# Altium footprint library USB_Wireless_2.4G.PcbLib: 6 footprints
Each footprint in its own frame and in the unit in brackets; x right, y up, seen from the top. Pads: shape width x height; smd on the part's side, far side on the other; paste and mask are expansions set on the pad; w line width, h text height; cw(c..) or ccw(c..) is an arc to the next point about the centre after c.
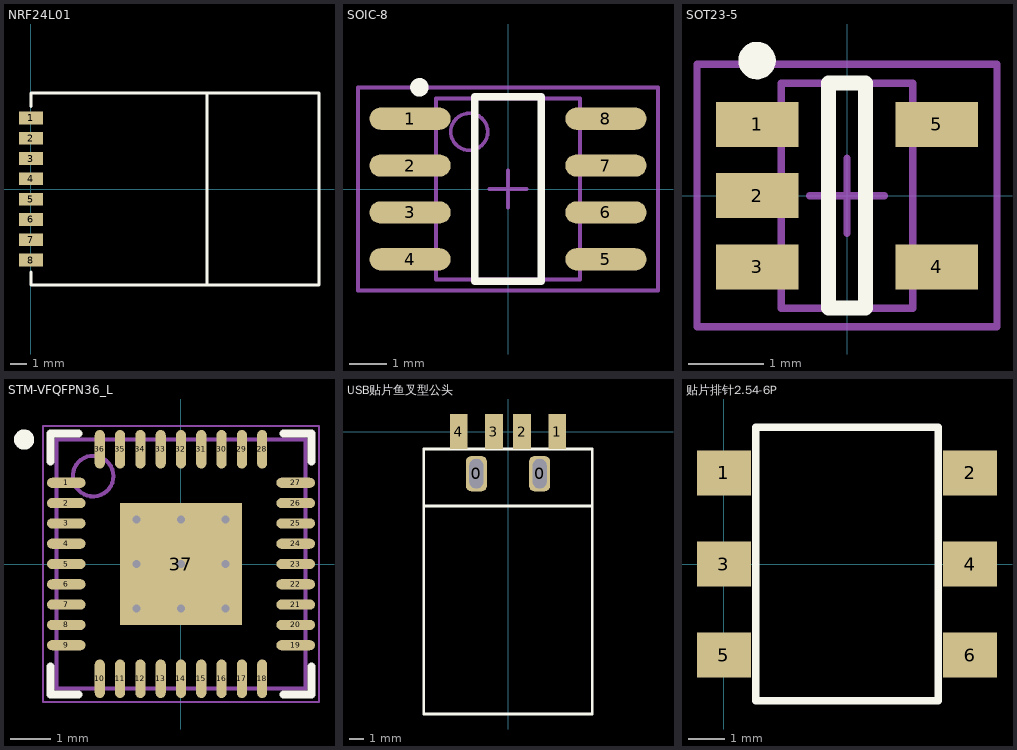
[diagram p0: the footprints below, top view; thin cyan lines are the x and y axes]

## NRF24L01 [mm]
pads (8):
  rect 1.5x0.8 smd: 1(0,4.445) 2(0,3.175) 3(0,1.905) 4(0,0.635) 5(0,-0.635) 6(0,-1.905) 7(0,-3.175) 8(0,-4.445)
Top Overlay:
  lines w0.2: 0,-5.2 0,-6 18,-6 18,6 0,6 ; 0,5.176 0,5.976 ; 11,-6 11,6
3D body: height 0.8, standoff 0, extent 0,-6 18.034,6

## SOIC-8 [mm]
height 1.75
pads (8):
  oval 2.2x0.6 smd: 1(-2.654,1.905) 2(-2.654,0.635) 3(-2.654,-0.635) 4(-2.654,-1.905) 5(2.654,-1.905) 6(2.654,-0.635) 7(2.654,0.635) 8(2.654,1.905)
Top Overlay:
  circle w0.25: c-2.4,2.755 r0.125
  lines w0.2: -0.9,-2.5 0.9,-2.5 0.9,2.5 -0.9,2.5 -0.9,-2.5
Mechanical 13:
  circle w0.1: c-1.05,1.55 r0.5
  lines w0.1: -1.95,-2.45 1.95,-2.45 1.95,2.45 -1.95,2.45 -1.95,-2.45
Mechanical 15:
  lines w0.1: -0.5,0 0.5,0 ; 0,-0.5 0,0.5 ; -4.064,-2.75 4.064,-2.75 4.064,2.75 -4.064,2.75 -4.064,-2.75
3D body "SO-8.STEP": height 1.7, standoff 0, extent -3,-2.45 3,2.45

## SOT23-5 [mm]
pads (5):
  rect 1.1x0.6 smd: 1(-1.2,0.95) 2(-1.2,0) 3(-1.2,-0.95) 4(1.2,-0.95) 5(1.2,0.95)
Top Overlay:
  circle w0.25: c-1.2,1.8 r0.125
  lines w0.2: -0.25,-1.5 -0.25,1.5 0.25,1.5 0.25,-1.5 -0.25,-1.5
Mechanical 13:
  lines w0.1: -0.875,-1.5 0.875,-1.5 0.875,1.5 -0.875,1.5 -0.875,-1.5
Mechanical 15:
  lines w0.1: -0.5,0 0.5,0 ; 0,-0.5 0,0.5 ; -2,-1.75 2,-1.75 2,1.75 -2,1.75 -2,-1.75
3D body "SOT23-5.STEP": height 1.2, standoff 0, extent -1.4,-1.45 1.4,1.45

## STM-VFQFPN36_L [mm] "QFN, 36-Leads, Body 6.13x6.13mm, Pitch 0.5mm, Thermal Pad 3x3mm, IPC High Density"
height 1
pads (37):
  oval 0.95x0.25 smd: 1(-2.825,2) 2(-2.825,1.5) 3(-2.825,1) 4(-2.825,0.5) 5(-2.825,0) 6(-2.825,-0.5) 7(-2.825,-1) 8(-2.825,-1.5) 9(-2.825,-2) 19(2.825,-2) 20(2.825,-1.5) 21(2.825,-1) 22(2.825,-0.5) 23(2.825,0) 24(2.825,0.5) 25(2.825,1) 26(2.825,1.5) 27(2.825,2)
  oval 0.25x0.95 smd: 10(-2,-2.825) 11(-1.5,-2.825) 12(-1,-2.825) 13(-0.5,-2.825) 14(0,-2.825) 15(0.5,-2.825) 16(1,-2.825) 17(1.5,-2.825) 18(2,-2.825) 28(2,2.825) 29(1.5,2.825) 30(1,2.825) 31(0.5,2.825) 32(0,2.825) 33(-0.5,2.825) 34(-1,2.825) 35(-1.5,2.825) 36(-2,2.825)
  rect 3x3 smd: 37(0,0)
via -1.1,1.1 diameter 0.5 hole 0.2
via 0,1.1 diameter 0.5 hole 0.2
via 1.1,1.1 diameter 0.5 hole 0.2
via -1.1,0 diameter 0.5 hole 0.2
via 0,0 diameter 0.5 hole 0.2
via 1.1,0 diameter 0.5 hole 0.2
via -1.1,-1.1 diameter 0.5 hole 0.2
via 0,-1.1 diameter 0.5 hole 0.2
via 1.1,-1.1 diameter 0.5 hole 0.2
Top Overlay:
  circle w0.25: c-3.865,3.065 r0.125
  lines w0.2: -3.215,-2.525 -3.215,-3.215 -2.525,-3.215 ; -3.215,2.525 -3.215,3.215 -2.525,3.215 ; 2.525,-3.215 3.215,-3.215 3.215,-2.525 ; 2.525,3.215 3.215,3.215 3.215,2.525
Mechanical 13:
  circle w0.1: c-2.165,2.165 r0.5
  lines w0.1: -3.065,-3.065 3.065,-3.065 3.065,3.065 -3.065,3.065 ; -3.063,-3.063 -3.063,3.063
Mechanical 15:
  lines w0.05: -3.4,-3.4 -3.4,3.4 3.4,3.4 3.4,-3.4 -3.4,-3.4
  lines w0.1: -0.5,0 0.5,0 ; 0,-0.5 0,0.5
3D body: height 1, standoff 0, extent -3.065,-3.065 3.065,3.065

## USB贴片鱼叉型公头 [mm]
pads (6):
  rrect50% 1.5x2.5 hole 1 slot 2.1 at 90 deg: 0(-2.25,-3) 0(2.25,-3)
  rect 1.27x2.5 smd: 1(3.5,0) 2(1,0) 3(-1,0) 4(-3.5,0)
Top Overlay:
  lines w0.2: -6,-5.3 6,-5.3 ; -6,-20.1 6,-20.1 6,-1.25 -6,-1.25 -6,-20.1
3D body: height 2.65, standoff 0, extent -6,-20.1 6,-1.25

## 贴片排针2.54-6P [mm]
pads (6):
  rect 1.5x1.25 smd: 1(0,2.54) 2(6.858,2.54) 3(0,0) 4(6.858,0) 5(0,-2.54) 6(6.858,-2.54)
Top Overlay:
  lines w0.2: 0.889,-3.81 0.889,3.81 5.969,3.81 5.969,-3.81 0.889,-3.81